# EAGLE library part SHARP27_REV (library sharp)
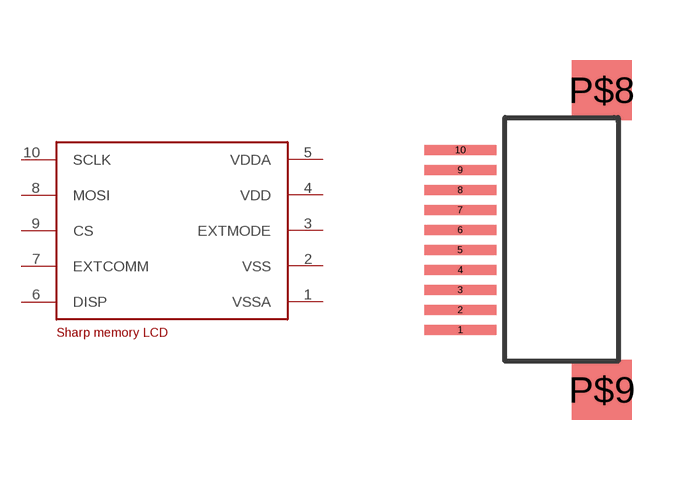
[diagram p1: symbol with the pads of SHARP27; footprint SHARP27]

Designator prefix -

## SHARP27_REV  [SHARP27]
1  VSSA
2  VSS
3  EXTMODE
4  VDD
5  VDDA
6  DISP
7  EXTCOMM
8  MOSI
9  CS
10  SCLK

## Footprint SHARP27 (pad centres in mm)
smd 1.8 x 0.25: 1 -3.12,-2.21; 2 -3.12,-1.71; 3 -3.12,-1.21; 4 -3.12,-0.71; 5 -3.12,-0.21; 6 -3.12,0.29; 7 -3.12,0.79; 8 -3.12,1.29; 9 -3.12,1.79; 10 -3.12,2.29
smd 1.5 x 1.5: P$8 0.425,3.79; P$9 0.425,-3.71